# Altium schematic symbol library ADLibrary_Schematics.SchLib: 31 symbols
Pins are listed as number, name and electrical type; pins without a type are passive.

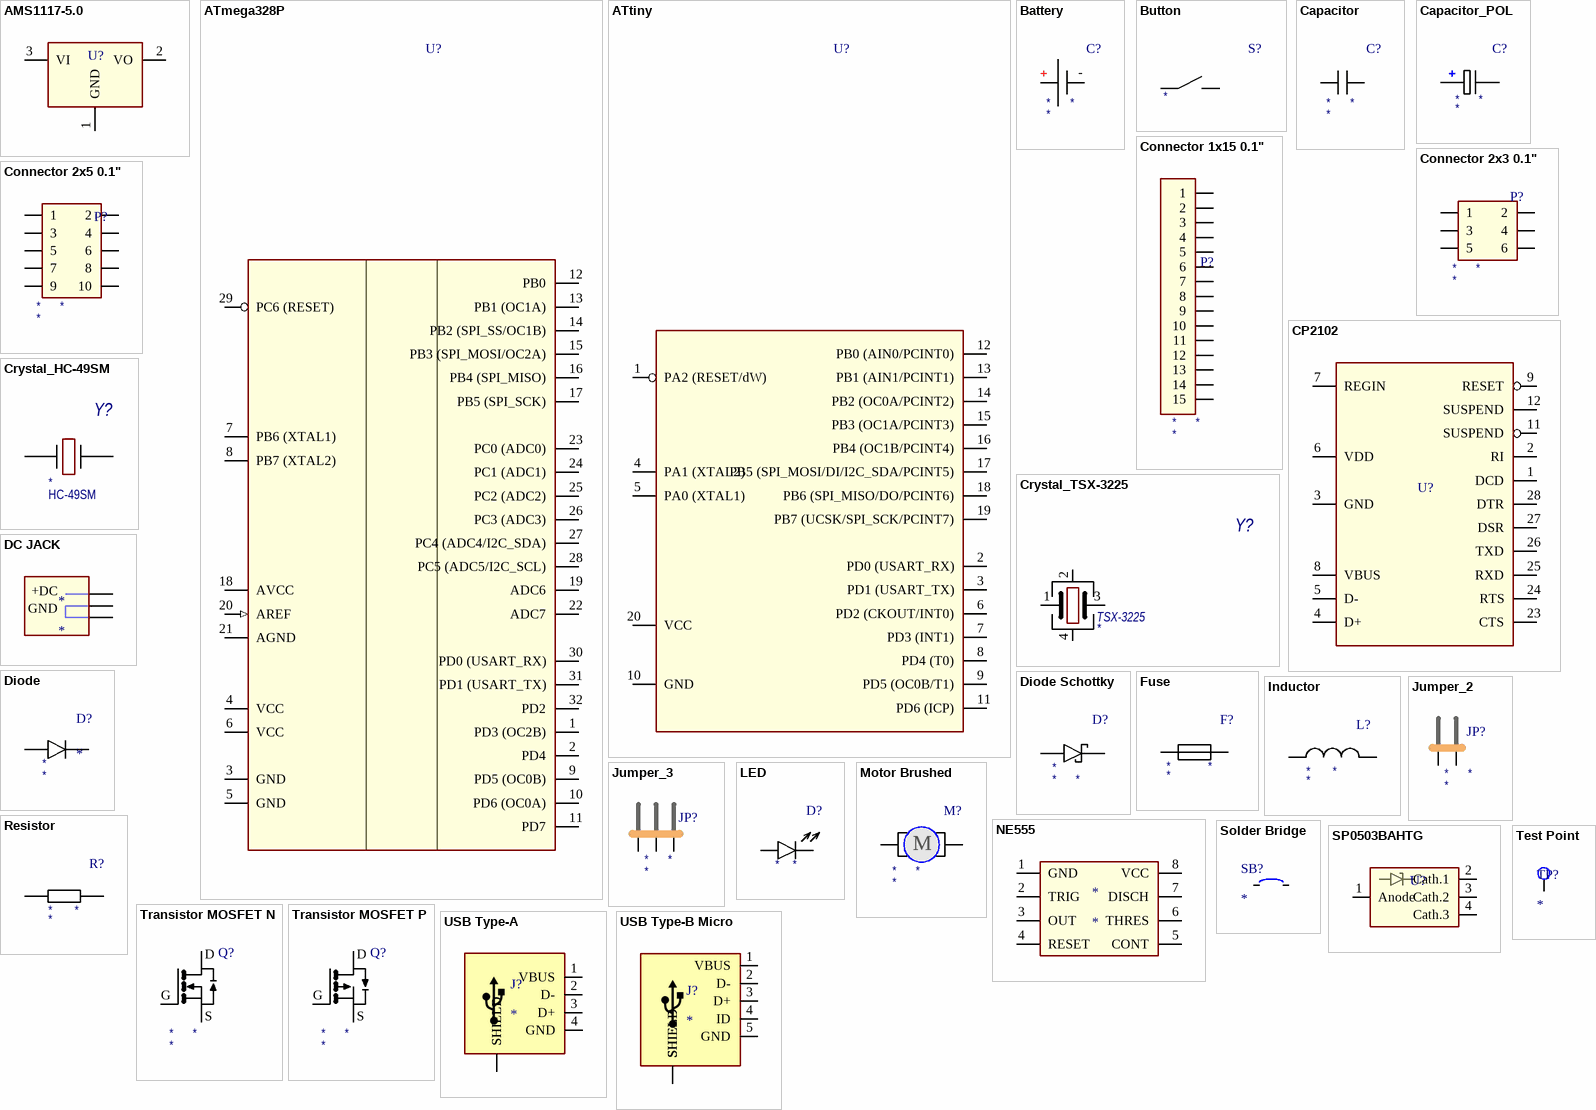
[diagram p0: symbols AMS1117-5.0 to USB Type-B Micro]

## AMS1117-5.0
designator U?  (value not drawn)
Model: AMS1117-5.0; Manufacturer: *; HelpURL: https://www.chipdip.by/product/ams1117-5.0; Case: SOT-223
footprint SOT-223 (SOT223, 4-Leads, Body 6,51x7,00mm (avg), Pitch 2,29mm, IPC Medium Density)
pins: 1 GND, 2 VO, 3 VI

## ATmega328P
designator U?  (value not drawn)
AVR series Microcontroller IC 8-Bit; Manufacturer: Microchip Technology
footprint TQFP-32 (7x7) (CQFP, 32-Leads, Body 9,00x9,00mm, Pitch 0,80mm, IPC Medium Density)
footprint QFN-32 (5x5)  Thermal Pad (QFN, 32-Leads, Body 5,00x5,00mm, Pitch 0,50mm, Thermal Pad 3,10x3,10mm, IPC Medium Density)
footprint PDIP-28
pins: 1 PD3 (OC2B), 2 PD4, 3 GND (power), 4 VCC (power), 5 GND (power), 6 VCC (power), 7 PB6 (XTAL1), 8 PB7 (XTAL2), 9 PD5 (OC0B), 10 PD6 (OC0A), 11 PD7, 12 PB0, 13 PB1 (OC1A), 14 PB2 (SPI_SS/OC1B), 15 PB3 (SPI_MOSI/OC2A), 16 PB4 (SPI_MISO), 17 PB5 (SPI_SCK), 18 AVCC (power), 19 ADC6, 20 AREF (in), 21 AGND (power), 22 ADC7, 23 PC0 (ADC0), 24 PC1 (ADC1), 25 PC2 (ADC2), 26 PC3 (ADC3), 27 PC4 (ADC4/I2C_SDA), 28 PC5 (ADC5/I2C_SCL), 29 PC6 (RESET), 30 PD0 (USART_RX), 31 PD1 (USART_TX), 32 PD2

## ATtiny
designator U?  (value not drawn)
AVR series Microcontroller IC 8-Bit; Manufacturer: Microchip Technology
footprint SOIC-20 (SOIC, 20-Leads, Body 12,80x7,50mm, Pitch 1,27mm, IPC Medium Density)
footprint QFN-20 (4x4) Thermal Pad (PQFN, 20-Leads, Body 4,00x4,00mm, Pitch 0,50mm, Thermal Pad 2,60x2,60mm, IPC Medium Density)
pins: 1 PA2 (RESET/dW), 2 PD0 (USART_RX), 3 PD1 (USART_TX), 4 PA1 (XTAL2), 5 PA0 (XTAL1), 6 PD2 (CKOUT/INT0), 7 PD3 (INT1), 8 PD4 (T0), 9 PD5 (OC0B/T1), 10 GND (power), 11 PD6 (ICP), 12 PB0 (AIN0/PCINT0), 13 PB1 (AIN1/PCINT1), 14 PB2 (OC0A/PCINT2), 15 PB3 (OC1A/PCINT3), 16 PB4 (OC1B/PCINT4), 17 PB5 (SPI_MOSI/DI/I2C_SDA/PCINT5), 18 PB6 (SPI_MISO/DO/PCINT6), 19 PB7 (UCSK/SPI_SCK/PCINT7), 20 VCC (power)

## Battery
designator C?
Manufacturer: *; HelpURL: *; Case: *; Value: *; Model: *
pins: 1, 2
text: +; -

## Button
designator S?
Case: *; Manufacturer: *; HelpURL: *; Model: *
footprint PTS815SJG250SMTRLFS (3.2x4.2 Tact Switch)
pins: 1, 2

## Capacitor
designator C?
Manufacturer: *; HelpURL: *; Case: *; Value: *; Model: *
footprint C0603 (Chip Capacitor, 2-Leads, Body 1,60x0,80mm, IPC Medium Density)
footprint C0402 (Chip Capacitor, 2-Leads, Body 1,00x0,50mm, IPC Medium Density)
pins: 1, 2

## Capacitor_POL
designator C?
Manufacturer: *; HelpURL: *; Case: *; Value: *; Model: *
footprint TANT B (Molded Capacitor, 2-Leads, Body 3,50x2,80mm, IPC Medium Density)
footprint TANT A (Molded Capacitor, 2-Leads, Body 3,20x1,60mm, IPC Medium Density)
pins: 1, 2

## Connector 1x15 0.1"
designator P?
Manufacturer: *; HelpURL: *; Case: *; Value: *; Model: *
footprint CONN-15 1x15 MALE
pins: 1, 2, 3, 4, 5, 6, 7, 8, 9, 10, 11, 12, 13, 14, 15

## Connector 2x3 0.1"
designator P?
Manufacturer: *; HelpURL: *; Case: *; Value: *; Model: *
footprint CONN IDC-6 2x3 MALE
footprint CONN IDC-6 2x3 MALE (lie)
footprint CONN-6 2x3 MALE
pins: 1, 2, 3, 4, 5, 6

## Connector 2x5 0.1"
designator P?
Manufacturer: *; HelpURL: *; Case: *; Value: *; Model: *
footprint CONN 2x5 MALE
pins: 1, 2, 3, 4, 5, 6, 7, 8, 9, 10

## CP2102
designator U?, comment CP2102-GMR  (value not drawn)
USB Bridge, USB to UART USB 2.0 UART Interface; Manufacturer: Silicon Laboratories; HelpURL: https://www.chipdip.by/product/cp2102-gmr; Case: QFN-28 (5x5); Model: CP2102-GMR
footprint QFN-28 (5x5) Thermal Pad (QFN, 28-Leads, Body 5,00x5,00mm, Pitch 0,50mm, Thermal Pad 3,15x3,15mm, IPC Medium Density)
pins: 1 DCD, 2 RI, 3 GND, 4 D+, 5 D-, 6 VDD, 7 REGIN, 8 VBUS, 9 RESET, 11 SUSPEND, 12 SUSPEND, 23 CTS, 24 RTS, 25 RXD, 26 TXD, 27 DSR, 28 DTR

## Crystal_HC-49SM
designator Y?  Case: HC-49SM
Model: HC-49SM; HelpURL: *; Value: *
footprint HC-49SM
pins: 1, 2

## Crystal_TSX-3225
designator Y?  Case: TSX-3225  (hidden comment: *)
CRYSTAL 24.0000MHZ 9PF SMD; Model: *; Manufacturer: *; HelpURL: *; Value: *
footprint TSX-3225 (Crystal)
pins: 1, 2, 3, 4

## DC JACK
designator *
footprint DC-JACK
pins: 1 +DC, 2 GND, 3 GND

## Diode
designator D?
HelpURL: *; Value: *; Model: *; Case: *
footprint DO-214AC (Molded Diode, 2-Leads, Body 4,20x2,70mm, IPC Medium Density)
pins: 1, 2

## Diode Schottky
designator D?
Manufacturer: *; HelpURL: *; Case: *; Value: *; Model: *
footprint SOD-523 (Molded Diode, 2-Leads, Body 1,25x0,80mm, IPC Medium Density)
pins: 1, 2

## Fuse
designator F?
Manufacturer: *; HelpURL: *; Case: *; Model: *; Value: *
footprint MF-MSMF050 (Fuse 0.5A)
pins: 1, 2

## Inductor
designator L?
Manufacturer: *; HelpURL: *; Case: *; Model: *; Value: *
footprint IND1206 (Chip Inductor, 2-Leads, Body 3,20x1,60mm, IPC Medium Density)
footprint IND0603 (Chip Inductor, 2-Leads, Body 1,60x0,80mm, IPC Medium Density)
pins: 1, 2

## Jumper_2
designator JP?
Manufacturer: *; HelpURL: *; Case: *; Value: *; Model: *
footprint JUMPER 2 (CONNECTED)
footprint JUMPER 2 (OPEN)
pins: 1, 2

## Jumper_3
designator JP?
Manufacturer: *; HelpURL: *; Case: *; Value: *; Model: *
footprint JUMPER 3 (CONNECTED)
pins: 1, 2, 2

## LED
designator D?
Manufacturer: *; HelpURL: *; Case: *; Value: *; Model: *
footprint D1206_LED_GREEN (3.2x1.6mm SMD CHIP LED LAMP)
footprint D1206_LED_RED (3.2x1.6mm SMD CHIP LED LAMP)
footprint D1206_LED_YELLOW (3.2x1.6mm SMD CHIP LED LAMP)
footprint D0603_LED_BLUE (Molded Diode, 2-Leads, Body 1,60x0,80mm, IPC Medium Density)
footprint D0603_LED_GREEN (Molded Diode, 2-Leads, Body 1,60x0,80mm, IPC Medium Density)
footprint D0603_LED_RED (Molded Diode, 2-Leads, Body 1,60x0,80mm, IPC Medium Density)
footprint D0603_LED_YELLOW (Molded Diode, 2-Leads, Body 1,60x0,80mm, IPC Medium Density)
pins: 1, 2

## Motor Brushed
designator M?
Manufacturer: *; HelpURL: *; Case: *; Value: *; Model: *
pins: 1, 2
text: M

## NE555
designator *
footprint SOIC-8 (SOIC, 8-Leads, Body 4,91x3,90mm, Pitch 1,27mm, IPC Medium Density)
footprint DIP-8
pins: 1 GND, 2 TRIG, 3 OUT, 4 RESET, 5 CONT, 6 THRES, 7 DISCH, 8 VCC

## Resistor
designator R?
Manufacturer: *; HelpURL: *; Case: *; Model: *; Value: *
footprint R0603 (Chip Resistor, 2-Leads, Body 1,60x0,85mm, IPC Medium Density)
footprint R0402 (Chip Resistor, 2-Leads, Body 1,00x0,50mm, IPC Medium Density)
pins: 1, 2

## Solder Bridge
designator SB?
footprint Solder Bridge 0603
pins: 1, 2

## SP0503BAHTG
designator U?  (value not drawn)
TVS DIODE 5.5V 8.5V; Manufacturer: Littelfuse Inc.; HelpURL: https://www.chipdip.by/product/sp0503bahtg; Case: SOT-143; Model: *
footprint SOT143-4 (SOT143, 4-Leads, Body 2,92x2,51mm, Pitch 1,90mm, IPC Medium Density)
pins: 1 Anode, 2 Cath.1, 3 Cath.2, 4 Cath.3

## Test Point
designator TP?
Net: *
footprint TP (Test Point)
pins: 1

## Transistor MOSFET N
designator Q?
Manufacturer: *; HelpURL: *; Case: *; Value: *; Model: *
pins: 1 D, 2 G, 2 S

## Transistor MOSFET P
designator Q?
Manufacturer: *; HelpURL: *; Case: *; Value: *; Model: *
pins: 1 D, 2 G, 2 S

## USB Type-A
designator J?
Digi-Key_Purchase_URL: https://www.digikey.com/product-detail/en/molex/1050170001/WM1399CT-ND/2350885?utm_source=snapeda&utm_medium=aggregator&utm_campaign=symbol
footprint USB - Type A Male
pins: 1 VBUS, 2 D-, 3 D+, 4 GND, SH1 SHIELD, SH2 SHIELD

## USB Type-B Micro
designator J?
USB - micro B USB 2.0 Receptacle Connector 5 Position Surface Mount, Right Angle; Through Hole; Manufacturer: Molex; Model: 1050170001; Digi-Key_Purchase_URL: https://www.digikey.com/product-detail/en/molex/1050170001/WM1399CT-ND/2350885?utm_source=snapeda&utm_medium=aggregator&utm_campaign=symbol; Digi-Key_Part_Number: WM1399CT-ND; Package: None; SnapEDA_Link: https://www.snapeda.com/parts/1050170001/Molex/view-part/2755530/?ref=snap; Value: *
footprint USB MOLEX 1050170001
pins: 1 VBUS, 2 D-, 3 D+, 4 ID, 5 GND, SH1 SHIELD, SH2 SHIELD, SH3 SHIELD, SH4 SHIELD, SH5 SHIELD, SH6 SHIELD, SH7 SHIELD, SH8 SHIELD